# EAGLE library part MCP3424-E_SL (library MCP3424-E_SL)
ADC 18-Bit 4-ch 2.048V I2C SOIC14 Source: Datasheet <http://ww1.microchip.com/downloads/en/DeviceDoc/22088c.pdf>
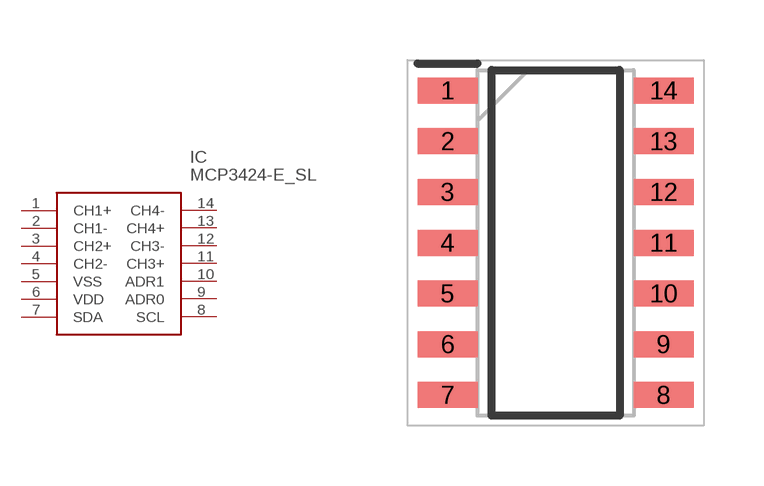
[diagram p0: symbol with the pads of SOIC127P600X175-14N; footprint SOIC127P600X175-14N]

Designator prefix IC

## MCP3424-E_SL (Allied_Number: 70046797; Allied_Price-Stock: http://www.alliedelec.com/microchip-technology-inc-mcp3424-e-sl/70046797/; Description: ADC 18-Bit 4-ch 2.048V I2C SOIC14; Height: 1.75mm; Manufacturer_Name: Microchip; Manufacturer_Part_Number: MCP3424-E/SL; Mouser_Part_Number: 579-MCP3424-E/SL; Mouser_Price-Stock: https://www.mouser.com/Search/Refine.aspx?Keyword=579-MCP3424-E%2FSL; RS_Part_Number: 6696086P; RS_Price-Stock: http://uk.rs-online.com/web/p/products/6696086P)  [SOIC127P600X175-14N]
1  CH1+
2  CH1-
3  CH2+
4  CH2-
5  VSS  pwr
6  VDD  pwr
7  SDA
8  SCL
9  ADR0
10  ADR1
11  CH3+
12  CH3-
13  CH4+
14  CH4-

## Footprint SOIC127P600X175-14N (pad centres in mm)
14-Lead(SL) SOIC
smd 1.5 x 0.65: 1 -2.7,3.81; 2 -2.7,2.54; 3 -2.7,1.27; 4 -2.7,0; 5 -2.7,-1.27; 6 -2.7,-2.54; 7 -2.7,-3.81; 8 2.7,-3.81; 9 2.7,-2.54; 10 2.7,-1.27; 11 2.7,0; 12 2.7,1.27; 13 2.7,2.54; 14 2.7,3.81